# Altium schematic symbol library Altium_Module.SchLib: 3 symbols
Pins are listed as number, name and electrical type; pins without a type are passive.

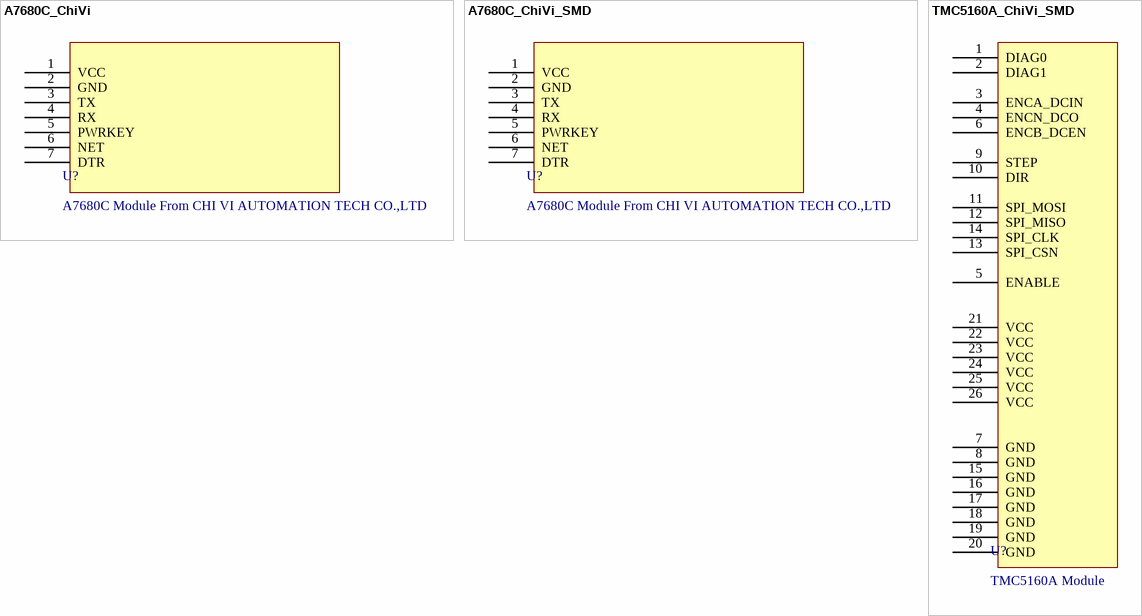
[diagram p0: symbols A7680C_ChiVi to TMC5160A_ChiVi_SMD]

## A7680C_ChiVi
designator U?, comment A7680C Module From CHI VI AUTOMATION TECH CO.,LTD
Manufacturer: Chi Vi; Pad Count: 7; Supply Voltage - Max: 12V; Supply Voltage - Min: 5V; ComponentLink1Description: Datasheet; ComponentLink1URL: N/A; LCSC Part #: C6332200; Manufacturer Part Number: A7680C; Mount: THT; Operating Temperature Max: + 70 C; Operating Temperature Min: - 40 C; Packaging: N/A; Supplier 1: Mouser; Supplier 1 Part Number: N/A; Supplier 1 URL: N/A; Supplier 2: Digi-Key; Supplier 2 Part Number: N/A; Supplier 2 URL: N/A; Supplier 3: thegioiic; Supplier 3 Part Number: N/A; Supplier 3 URL: N/A; Value: A7680C Module
footprint A7680C_ChiVi
pins: 1 VCC, 2 GND, 3 TX, 4 RX, 5 PWRKEY, 6 NET, 7 DTR

## A7680C_ChiVi_SMD
designator U?, comment A7680C Module From CHI VI AUTOMATION TECH CO.,LTD
Manufacturer: Chi Vi; Pad Count: 7; Supply Voltage - Max: 12V; Supply Voltage - Min: 5V; Value: A7680C Module SMD; ComponentLink1Description: Datasheet; ComponentLink1URL: N/A; LCSC Part #: C2883804; Manufacturer Part Number: A7680C; Mount: SMD/SMT; Operating Temperature Max: + 70 C; Operating Temperature Min: - 40 C; Packaging: N/A; Supplier 1: Mouser; Supplier 1 Part Number: N/A; Supplier 1 URL: N/A; Supplier 2: Digi-Key; Supplier 2 Part Number: N/A; Supplier 2 URL: N/A; Supplier 3: thegioiic; Supplier 3 Part Number: N/A; Supplier 3 URL: N/A
footprint A7680C_ChiVi_SMD
pins: 1 VCC, 2 GND, 3 TX, 4 RX, 5 PWRKEY, 6 NET, 7 DTR

## TMC5160A_ChiVi_SMD
designator U?, comment TMC5160A Module
TMC5160A Module From CHI VI AUTOMATION TECH CO.,LTD; Manufacturer: Chi Vi; Pad Count: 7; Supply Voltage - Max: 12V; Supply Voltage - Min: 5V; Value: A7680C Module SMD; ComponentLink1Description: Datasheet; ComponentLink1URL: N/A; LCSC Part #: C2897414; Manufacturer Part Number: TMC5160A Module; Mount: SMD/SMT; Operating Temperature Max: + 70 C; Operating Temperature Min: - 40 C; Packaging: N/A; Supplier 1 Part Number: N/A; Supplier 1 URL: N/A; Supplier 1: Mouser; Supplier 2 Part Number: N/A; Supplier 2 URL: N/A; Supplier 2: Digi-Key; Supplier 3 Part Number: N/A; Supplier 3 URL: N/A; Supplier 3: thegioiic
footprint TMC5160A_CHIVI_SMD (Socket Header, Pitch 2.54 mm, THT, Vertical, dual row, 26p)
pins: 1 DIAG0, 2 DIAG1, 3 ENCA_DCIN, 4 ENCN_DCO, 5 ENABLE, 6 ENCB_DCEN, 7 GND, 8 GND, 9 STEP, 10 DIR, 11 SPI_MOSI, 12 SPI_MISO, 13 SPI_CSN, 14 SPI_CLK, 15 GND, 16 GND, 17 GND, 18 GND, 19 GND, 20 GND, 21 VCC, 22 VCC, 23 VCC, 24 VCC, 25 VCC, 26 VCC